# EAGLE library part NRF24L01 (library nRF24L01)
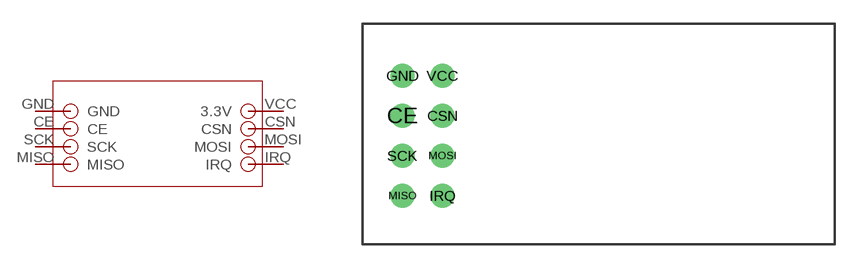
[diagram p0: symbol with the pads of NRF24L01; footprint NRF24L01]

Designator prefix NRF24L01

## NRF24L01  [NRF24L01]
CE  CE
CSN  CSN
GND  GND
IRQ  IRQ
MISO  MISO
MOSI  MOSI
SCK  SCK
VCC  3.3V

## Footprint NRF24L01 (pad centres in mm)
drill 1: CE 2.54,7.62; CSN 5.08,7.62; GND 2.54,10.16; IRQ 5.08,2.54; MISO 2.54,2.54; MOSI 5.08,5.08; SCK 2.54,5.08; VCC 5.08,10.16